# Altium footprint library CAPAE430X730N.PcbLib: 1 footprints
Each footprint in its own frame and in the unit in brackets; x right, y up, seen from the top. Pads: shape width x height; smd on the part's side, far side on the other; paste and mask are expansions set on the pad; w line width, h text height; cw(c..) or ccw(c..) is an arc to the next point about the centre after c.
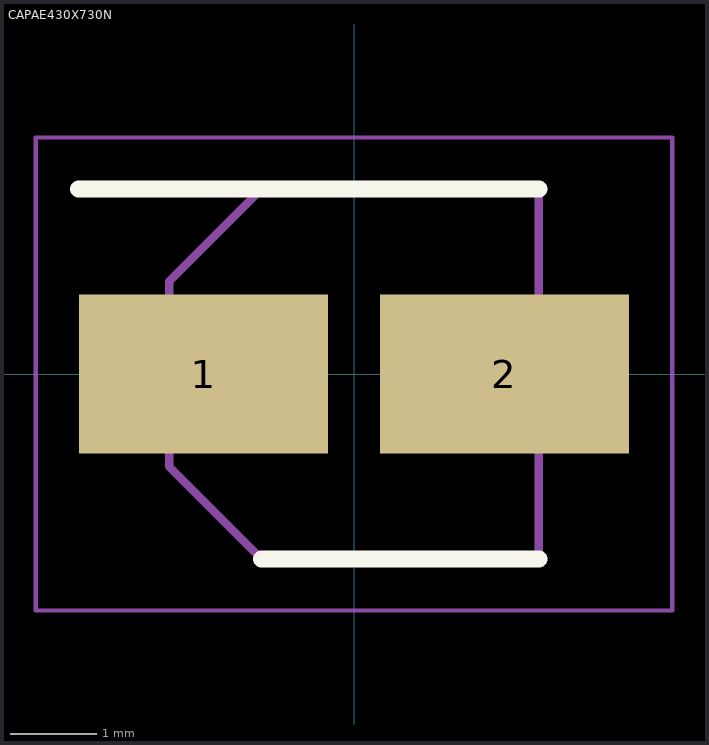
[diagram p0: the footprint, top view; thin cyan lines are the x and y axes]

## CAPAE430X730N [mm]
pads (2):
  rect 2.9x1.85 smd: 1(-1.75,0) 2(1.75,0)
Top Overlay:
  lines w0.2: -3.2,2.15 2.15,2.15 ; -1.075,-2.15 2.15,-2.15
Mechanical 13:
  lines w0.1: -2.15,-1.075 -1.075,-2.15 2.15,-2.15 2.15,2.15 -1.075,2.15 -2.15,1.075 -2.15,-1.075
Mechanical 15:
  lines w0.05: -3.7,-2.75 -3.7,2.75 3.7,2.75 3.7,-2.75 -3.7,-2.75
3D body "UCB1V0R1MCL1GS.stp": height 7.3, standoff 0, extent -2.5,-2.25 2.5,2.25